# EAGLE library part TPS6102* (library bschulz)
TPS6102x - High Efficiency Synchronous Boost Converter Characteristics: Vin: 0.9V ~ 5.5V Vout: 1.8V ~ 5.5V (Fixed 3.0v, 3.3v, 5v) Output Current (max): 1.5A (Compatable with 1.8A version) IQ: 25μA (typ) Operating Temperature: -40°C to 85°C Digikey: 296-15752-1-ND (TPS61020, Adj) <https://www.digikey.com/product-detail/en/texas-instruments/TPS61020DRCR/296-15752-1-ND/593893> 296-15844-1-ND (TPS61025, 3.3v Fixed) <https://www.digikey.com/product-detail/en/texas-instruments/TPS61025DRCR/296-15844-1-ND/600559> 296-15754-1-ND (TPS61027, 5v Fixed) <https://www.digikey.com/product-detail/en/texas-instruments/TPS61027DRCR/296-15754-1-ND/593896>
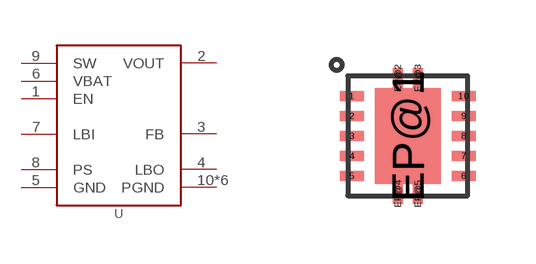
[diagram p83: symbol with the pads of DRC0010J; footprint DRC0010J]

Designator prefix U

## TPS6102DRC (MF: TI), TPS61020DRC (DIGIKEY: 296-15752-1-ND; DISP: TPS61020; MF: TI; MPN: TPS61020DRCR), TPS61025DRC (DIGIKEY: 296-15844-1-ND; DISP: TPS61025; MF: TI; MPN: TPS61025DRCR), TPS61027DRC (DIGIKEY: 296-15754-1-ND; DISP: TPS61027; MF: TI; MPN: TPS61027DRCR)  [DRC0010J]
1  EN  in
2  VOUT  pwr
3  FB  in
4  LBO  out
5  GND  pwr
6  VBAT  pwr
7  LBI  in
8  PS  in
9  SW  pwr
10  PGND  pwr
EP@1  PGND  pwr
EP@2  PGND  pwr
EP@3  PGND  pwr
EP@4  PGND  pwr
EP@5  PGND  pwr

## Footprint DRC0010J (pad centres in mm)
VSON, 10 pin, power pad
smd 0.6 x 0.24: 1 -1.4,1; 2 -1.4,0.5; 3 -1.4,0; 4 -1.4,-0.5; 5 -1.4,-1; 6 1.4,-1; 7 1.4,-0.5; 8 1.4,0; 9 1.4,0.5; 10 1.4,1
smd 1.65 x 2.4: EP@1 0,0
smd 0.25 x 0.5: EP@2 -0.25,1.45; EP@3 0.25,1.45; EP@4 -0.25,-1.45; EP@5 0.25,-1.45